# EAGLE library part DAC7578SPWR (library DAC7578SPWR)
12-bit, Octal Channel, Ultra-Low Glitch, Voltage Output, 2-Wire Interface DAC Source: Datasheet <http://www.ti.com/lit/gpn/DAC7578>
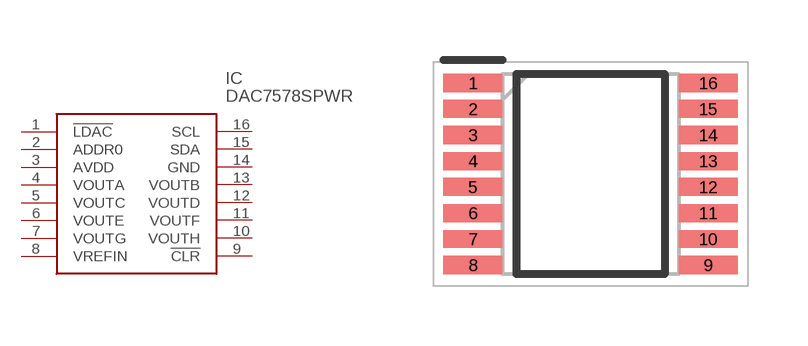
[diagram p0: symbol with the pads of SOP65P640X120-16N; footprint SOP65P640X120-16N]

Designator prefix IC

## DAC7578SPWR (Description: 12-bit, Octal Channel, Ultra-Low Glitch, Voltage Output, 2-Wire Interface DAC; Height: 1.2mm; Manufacturer_Name: Texas Instruments; Manufacturer_Part_Number: DAC7578SPWR; Mouser_Part_Number: 595-DAC7578SPWR; Mouser_Price-Stock: https://www.mouser.co.uk/ProductDetail/Texas-Instruments/DAC7578SPWR?qs=EuM%2FBx4ov4Q5WBxZ%252BdwNrg%3D%3D)  [SOP65P640X120-16N]
1  !LDAC
2  ADDR0
3  AVDD
4  VOUTA
5  VOUTC
6  VOUTE
7  VOUTG
8  VREFIN
9  !CLR
10  VOUTH
11  VOUTF
12  VOUTD
13  VOUTB
14  GND
15  SDA
16  SCL

## Footprint SOP65P640X120-16N (pad centres in mm)
PW (R-PDSO-G16)
smd 1.475 x 0.45: 1 -2.938,2.275; 2 -2.938,1.625; 3 -2.938,0.975; 4 -2.938,0.325; 5 -2.938,-0.325; 6 -2.938,-0.975; 7 -2.938,-1.625; 8 -2.938,-2.275; 9 2.938,-2.275; 10 2.938,-1.625; 11 2.938,-0.975; 12 2.938,-0.325; 13 2.938,0.325; 14 2.938,0.975; 15 2.938,1.625; 16 2.938,2.275